# EAGLE library part W25Q256JVEIQ (library W25Q256JVEIQ)
256M-bit Serial Flash Memory with uniform 4KB sectors and Dual/Quad SPI Source: Datasheet <https://www.winbond.com/hq/search-resource-file.jsp?partNo=W25Q256JVEIQ&type=datasheet>
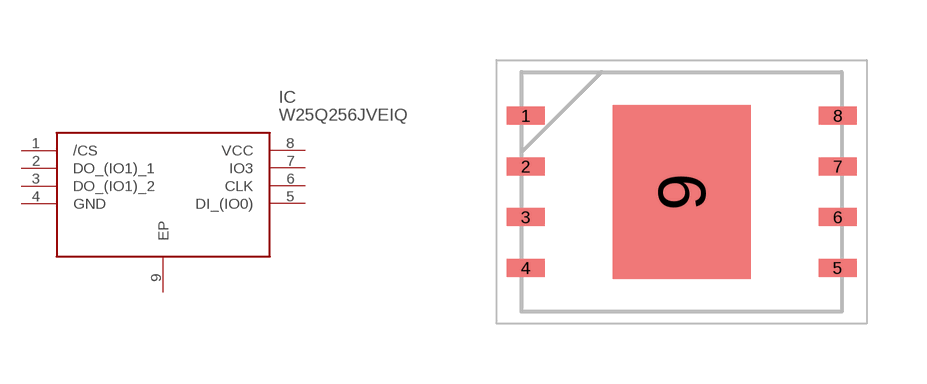
[diagram p0: symbol with the pads of SON127P800X600X80-9N; footprint SON127P800X600X80-9N]

Designator prefix IC

## W25Q256JVEIQ (Arrow_Part_Number: W25Q256JVEIQ; Arrow_Price-Stock: https://www.arrow.com/en/products/w25q256jveiq/winbond-electronics?region=nac; Description: 256M-bit Serial Flash Memory with uniform 4KB sectors and Dual/Quad SPI; Height: 0.8mm; Manufacturer_Name: Winbond; Manufacturer_Part_Number: W25Q256JVEIQ; Mouser_Part_Number: 454-W25Q256JVEIQ; Mouser_Price-Stock: https://www.mouser.co.uk/ProductDetail/Winbond/W25Q256JVEIQ?qs=qSfuJ%252Bfl%2Fd4o%2FNFUf7yCgA%3D%3D)  [SON127P800X600X80-9N]
1  /CS
2  DO_(IO1)_1
3  DO_(IO1)_2
4  GND
5  DI_(IO0)
6  CLK
7  IO3
8  VCC
9  EP

## Footprint SON127P800X600X80-9N (pad centres in mm)
W25Q256JVEIQ
smd 0.95 x 0.45: 1 -3.9,1.905; 2 -3.9,0.635; 3 -3.9,-0.635; 4 -3.9,-1.905; 5 3.9,-1.905; 6 3.9,-0.635; 7 3.9,0.635; 8 3.9,1.905
smd 3.45 x 4.35: 9 0,0